# EAGLE library part 74HC595 (library Logic)
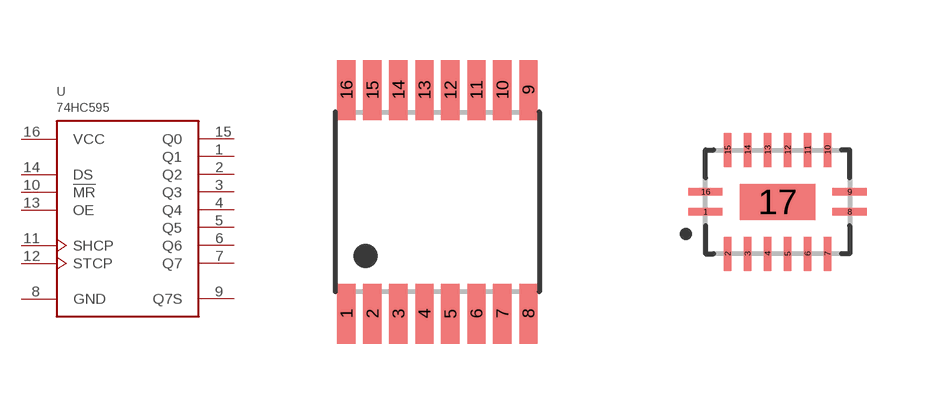
[diagram p0: symbol with the pads of TSSOP16; footprints TSSOP16, DHVQFN16]

Designator prefix U

## 74HC595PW  [TSSOP16]
1  Q1
2  Q2
3  Q3
4  Q4
5  Q5
6  Q6
7  Q7
8  GND
9  Q7S
10  !MR
11  SHCP
12  STCP
13  OE
14  DS
15  Q0
16  VCC

## 74HC595BQ  [DHVQFN16]
1  Q1
2  Q2
3  Q3
4  Q4
5  Q5
6  Q6
7  Q7
8  GND
9  Q7S
10  !MR
11  SHCP
12  STCP
13  OE
14  DS
15  Q0
16  VCC
17  GND

## Footprint TSSOP16 (pad centres in mm)
smd 0.45 x 1.5: 1 -2.275,-2.8; 2 -1.625,-2.8; 3 -0.975,-2.8; 4 -0.325,-2.8; 5 0.325,-2.8; 6 0.975,-2.8; 7 1.625,-2.8; 8 2.275,-2.8; 9 2.275,2.8; 10 1.625,2.8; 11 0.975,2.8; 12 0.325,2.796; 13 -0.325,2.796; 14 -0.975,2.8; 15 -1.625,2.8; 16 -2.275,2.8

## Footprint DHVQFN16 (pad centres in mm)
smd 0.85 x 0.19: 1 -1.8,-0.25; 8 1.8,-0.25; 9 1.8,0.25; 16 -1.8,0.25
smd 0.19 x 0.85: 2 -1.25,-1.3; 3 -0.75,-1.3; 4 -0.25,-1.3; 5 0.25,-1.3; 6 0.75,-1.3; 7 1.25,-1.3; 10 1.25,1.3; 11 0.75,1.3; 12 0.25,1.3; 13 -0.25,1.3; 14 -0.75,1.3; 15 -1.25,1.3
smd 1.9 x 0.9: 17 0,0